# Altium schematic symbol library LM7805S_NOPB.SchLib: 1 symbol
Pins are listed as number, name and electrical type; pins without a type are passive.

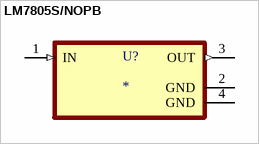
[diagram p0: symbol LM7805S/NOPB]

## LM7805S/NOPB
designator U?
1.5-A, 30-V, linear voltage regulator; MF: Texas Instruments; MP: LM7805S/NOPB; SnapEDA_Link: https://www.snapeda.com/parts/LM7805S/NOPB/Texas+Instruments/view-part/?ref=snap; Package: TO263-3 Texas Instruments; Value: *; Check_prices: https://www.snapeda.com/parts/LM7805S/NOPB/Texas+Instruments/view-part/?ref=eda
footprint TO254P1524X483-4N
pins: 1 IN (in), 2 GND (power), 3 OUT (out), 4 GND (power)